# EAGLE library part 621X1421921 (library Board-to-Board (rev18a))
WR-PHD 2.00mm Dual SMT Pin Header, 14 Pins=>Code :WR-PHD_SMD_2,00mm_zweireihig621x1421921(packageing:x = 0: Tube x = 3: Tape & Reel with Cap) <http://katalog.we-online.de/media/images/eican/WR-PHD_SMD_2,00mm_zweireihig62103221921.jpg> 6210xx21921 Details see: http://katalog.we-online.de/en/em/621_0xx_219_21 6213xx21921 Details see: http://katalog.we-online.de/en/em/PHD_2_00_SMT_DUAL_PIN_HEADER_REEL_6213XX21921 2014 (C) Würth Elektronik
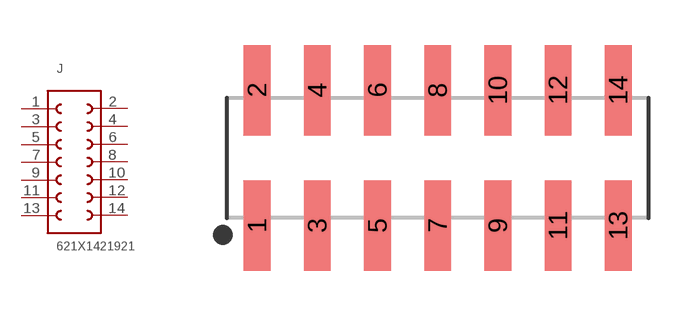
[diagram p234: symbol with the pads of 621X1421921; footprint 621X1421921]

Designator prefix J

## 621X1421921  [621X1421921]
1  1  pas
2  14  pas
3  2  pas
4  13  pas
5  3  pas
6  12  pas
7  4  pas
8  11  pas
9  5  pas
10  10  pas
11  6  pas
12  9  pas
13  7  pas
14  8  pas

## Footprint 621X1421921 (pad centres in mm)
WR-PHD 2.00mm Dual SMT Pin Header, 14 Pins
smd 0.89 x 3: 1 -6,-2.25; 2 -6,2.25; 3 -4,-2.25; 4 -4,2.25; 5 -2,-2.25; 6 -2,2.25; 7 0,-2.25; 8 0,2.25; 9 2,-2.25; 10 2,2.25; 11 4,-2.25; 12 4,2.25; 13 6,-2.25; 14 6,2.25